# Altium footprint library TMC5041-LA-T.PcbLib: 3 footprints
Each footprint in its own frame and in the unit in brackets; x right, y up, seen from the top. Pads: shape width x height; smd on the part's side, far side on the other; paste and mask are expansions set on the pad; w line width, h text height; cw(c..) or ccw(c..) is an arc to the next point about the centre after c.
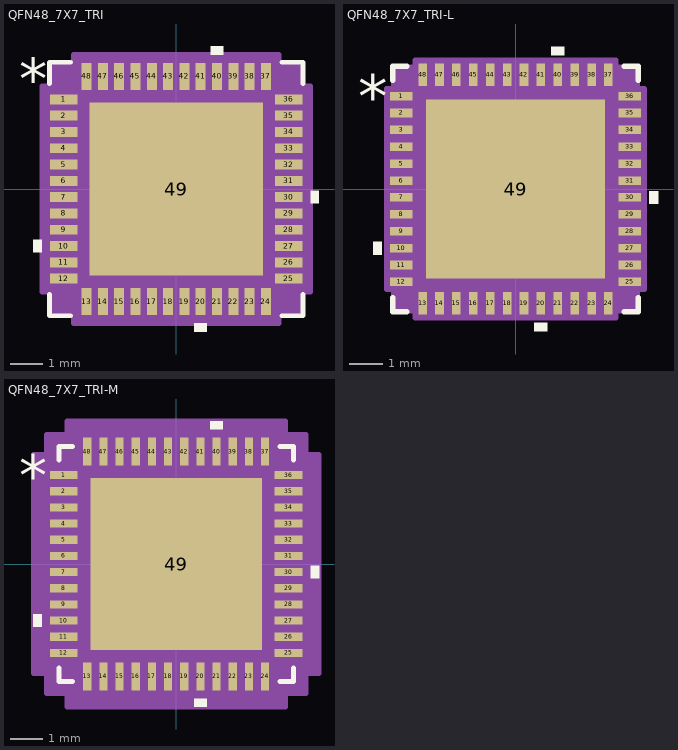
[diagram p0: the footprints below, top view; thin cyan lines are the x and y axes]

## QFN48_7X7_TRI [mil]
pads (49):
  rect 33x12 smd paste-6 mask+0: 1(-135.83,108.27) 2(-135.83,88.58) 3(-135.83,68.9) 4(-135.83,49.21) 5(-135.83,29.53) 6(-135.83,9.84) 7(-135.83,-9.84) 8(-135.83,-29.53) 9(-135.83,-49.21) 10(-135.83,-68.9) 11(-135.83,-88.58) 12(-135.83,-108.27) 25(135.83,-108.27) 26(135.83,-88.58) 27(135.83,-68.9) 28(135.83,-49.21) 29(135.83,-29.53) 30(135.83,-9.84) 31(135.83,9.84) 32(135.83,29.53) 33(135.83,49.21) 34(135.83,68.9) 35(135.83,88.58) 36(135.83,108.27)
  rect 12x33 smd paste-6 mask+0: 13(-108.27,-135.83) 14(-88.58,-135.83) 15(-68.9,-135.83) 16(-49.21,-135.83) 17(-29.53,-135.83) 18(-9.84,-135.83) 19(9.84,-135.83) 20(29.53,-135.83) 21(49.21,-135.83) 22(68.9,-135.83) 23(88.58,-135.83) 24(108.27,-135.83) 37(108.27,135.83) 38(88.58,135.83) 39(68.9,135.83) 40(49.21,135.83) 41(29.53,135.83) 42(9.84,135.83) 43(-9.84,135.83) 44(-29.53,135.83) 45(-49.21,135.83) 46(-68.9,135.83) 47(-88.58,135.83) 48(-108.27,135.83)
  rect 209x209 smd paste+0 mask+0: 49(0,0)
Top Overlay:
  region: -162.33,-61.4 -172.33,-61.4 -172.33,-76.4 -162.33,-76.4
  region: 37.03,-162.33 22.03,-162.33 22.03,-172.33 37.03,-172.33
  region: 162.33,-2.34 172.33,-2.34 172.33,-17.34 162.33,-17.34
  region: 56.71,162.33 41.71,162.33 41.71,172.33 56.71,172.33
  lines w6: -153,-127.35 -153,-153 -127.35,-153 ; -153,127.35 -153,153 -127.35,153 ; 127.35,-153 153,-153 153,-127.35 ; 127.35,153 153,153 153,127.35
  text "*" at -189.83,108.11 h50
Top Paste:
  region: -56.19,100.56 -100.56,100.56 -100.56,56.19 -56.19,56.19
  region: -56.19,48.31 -100.56,48.31 -100.56,3.94 -56.19,3.94
  region: -56.19,-3.94 -100.56,-3.94 -100.56,-48.31 -56.19,-48.31
  region: -56.19,-56.19 -100.56,-56.19 -100.56,-100.56 -56.19,-100.56
  region: -3.94,100.56 -48.31,100.56 -48.31,56.19 -3.94,56.19
  region: -3.94,48.31 -48.31,48.31 -48.31,3.94 -3.94,3.94
  region: -3.94,-3.94 -48.31,-3.94 -48.31,-48.31 -3.94,-48.31
  region: -3.94,-56.19 -48.31,-56.19 -48.31,-100.56 -3.94,-100.56
  region: 48.31,100.56 3.94,100.56 3.94,56.19 48.31,56.19
  region: 48.31,48.31 3.94,48.31 3.94,3.94 48.31,3.94
  region: 48.31,-3.94 3.94,-3.94 3.94,-48.31 48.31,-48.31
  region: 48.31,-56.19 3.94,-56.19 3.94,-100.56 48.31,-100.56
  region: 100.56,100.56 56.19,100.56 56.19,56.19 100.56,56.19
  region: 100.56,48.31 56.19,48.31 56.19,3.94 100.56,3.94
  region: 100.56,-3.94 56.19,-3.94 56.19,-48.31 100.56,-48.31
  region: 100.56,-56.19 56.19,-56.19 56.19,-100.56 100.56,-100.56
Mechanical 13:
  lines w1: -138,88 -88,138 ; -138,-138 138,-138 138,138 -138,138 -138,-138
  text "*" at -121.83,93.11 h50
Mechanical 15:
  region: -124.27,-148 -148,-148 -148,-124.27 -162.33,-124.27 -162.33,124.27 -148,124.27 -148,148 -124.27,148 -124.27,162.33 124.27,162.33 124.27,148 148,148 148,124.27 162.33,124.27 162.33,-124.27 148,-124.27 148,-148 124.27,-148 124.27,-162.33 -124.27,-162.33
  lines w6: -162.33,-124.27 -148,-124.27 -148,-148 -124.27,-148 -124.27,-162.33 124.27,-162.33 124.27,-148 148,-148 148,-124.27 162.33,-124.27 162.33,124.27 148,124.27 148,148 124.27,148 124.27,162.33 -124.27,162.33 -124.27,148 -148,148 -148,124.27 -162.33,124.27 -162.33,-124.27
3D body "QFN48_7X7_TRI.step": height 33.11, standoff 0, extent -140,-140 140,140

## QFN48_7X7_TRI-L [mil]
pads (49):
  rect 26x10 smd paste+0 mask+0: 1(-133,108.27) 2(-133,88.58) 3(-133,68.9) 4(-133,49.21) 5(-133,29.53) 6(-133,9.84) 7(-133,-9.84) 8(-133,-29.53) 9(-133,-49.21) 10(-133,-68.9) 11(-133,-88.58) 12(-133,-108.27) 25(133,-108.27) 26(133,-88.58) 27(133,-68.9) 28(133,-49.21) 29(133,-29.53) 30(133,-9.84) 31(133,9.84) 32(133,29.53) 33(133,49.21) 34(133,68.9) 35(133,88.58) 36(133,108.27)
  rect 10x26 smd paste+0 mask+0: 13(-108.27,-133) 14(-88.58,-133) 15(-68.9,-133) 16(-49.21,-133) 17(-29.53,-133) 18(-9.84,-133) 19(9.84,-133) 20(29.53,-133) 21(49.21,-133) 22(68.9,-133) 23(88.58,-133) 24(108.27,-133) 37(108.27,133) 38(88.58,133) 39(68.9,133) 40(49.21,133) 41(29.53,133) 42(9.84,133) 43(-9.84,133) 44(-29.53,133) 45(-49.21,133) 46(-68.9,133) 47(-88.58,133) 48(-108.27,133)
  rect 209x209 smd paste+0 mask+0: 49(0,0)
Top Overlay:
  region: -156,-61.4 -166,-61.4 -166,-76.4 -156,-76.4
  region: 37.03,-156 22.03,-156 22.03,-166 37.03,-166
  region: 156,-2.34 166,-2.34 166,-17.34 156,-17.34
  region: 56.71,156 41.71,156 41.71,166 56.71,166
  lines w6: -143,-126.37 -143,-143 -126.37,-143 ; -143,126.37 -143,143 -126.37,143 ; 126.37,-143 143,-143 143,-126.37 ; 126.37,143 143,143 143,126.37
  text "*" at -183.5,83.27 h50
Mechanical 13:
  drawing of 197 lines, arcs and shapes, not listed
  text "*" at -107.5,83.27 h50
Mechanical 15:
  region: -117.27,-142 -142,-142 -142,-117.27 -150,-117.27 -150,117.27 -142,117.27 -142,142 -117.27,142 -117.27,150 117.27,150 117.27,142 142,142 142,117.27 150,117.27 150,-117.27 142,-117.27 142,-142 117.27,-142 117.27,-150 -117.27,-150
  lines w6: -150,-117.27 -142,-117.27 -142,-142 -117.27,-142 -117.27,-150 117.27,-150 117.27,-142 142,-142 142,-117.27 150,-117.27 150,117.27 142,117.27 142,142 117.27,142 117.27,150 -117.27,150 -117.27,142 -142,142 -142,117.27 -150,117.27 -150,-117.27
3D body "QFN48_7X7_TRI.step": height 33.11, standoff 0, extent -140,-140 140,140

## QFN48_7X7_TRI-M [mil]
pads (49):
  rect 34x10 smd paste+0 mask+0: 1(-137,108.27) 2(-137,88.58) 3(-137,68.9) 4(-137,49.21) 5(-137,29.53) 6(-137,9.84) 7(-137,-9.84) 8(-137,-29.53) 9(-137,-49.21) 10(-137,-68.9) 11(-137,-88.58) 12(-137,-108.27) 25(137,-108.27) 26(137,-88.58) 27(137,-68.9) 28(137,-49.21) 29(137,-29.53) 30(137,-9.84) 31(137,9.84) 32(137,29.53) 33(137,49.21) 34(137,68.9) 35(137,88.58) 36(137,108.27)
  rect 10x34 smd paste+0 mask+0: 13(-108.27,-137) 14(-88.58,-137) 15(-68.9,-137) 16(-49.21,-137) 17(-29.53,-137) 18(-9.84,-137) 19(9.84,-137) 20(29.53,-137) 21(49.21,-137) 22(68.9,-137) 23(88.58,-137) 24(108.27,-137) 37(108.27,137) 38(88.58,137) 39(68.9,137) 40(49.21,137) 41(29.53,137) 42(9.84,137) 43(-9.84,137) 44(-29.53,137) 45(-49.21,137) 46(-68.9,137) 47(-88.58,137) 48(-108.27,137)
  rect 209x209 smd paste+0 mask+0: 49(0,0)
Top Overlay:
  region: -164,-61.4 -174,-61.4 -174,-76.4 -164,-76.4
  region: 37.03,-164 22.03,-164 22.03,-174 37.03,-174
  region: 164,-2.34 174,-2.34 174,-17.34 164,-17.34
  region: 56.71,164 41.71,164 41.71,174 56.71,174
  lines w6: -143,-126.37 -143,-143 -126.37,-143 ; -143,126.37 -143,143 -126.37,143 ; 126.37,-143 143,-143 143,-126.37 ; 126.37,143 143,143 143,126.37
  text "*" at -191.5,83.27 h50
Mechanical 13:
  drawing of 197 lines, arcs and shapes, not listed
  text "*" at -107.5,83.27 h50
Mechanical 15:
  region: -133.27,-158 -158,-158 -158,-133.27 -174,-133.27 -174,133.27 -158,133.27 -158,158 -133.27,158 -133.27,174 133.27,174 133.27,158 158,158 158,133.27 174,133.27 174,-133.27 158,-133.27 158,-158 133.27,-158 133.27,-174 -133.27,-174
  lines w6: -174,-133.27 -158,-133.27 -158,-158 -133.27,-158 -133.27,-174 133.27,-174 133.27,-158 158,-158 158,-133.27 174,-133.27 174,133.27 158,133.27 158,158 133.27,158 133.27,174 -133.27,174 -133.27,158 -158,158 -158,133.27 -174,133.27 -174,-133.27
3D body "QFN48_7X7_TRI.step": height 33.11, standoff 0, extent -140,-140 140,140